# Altium footprint library fuse.PcbLib: 36 footprints (part 3 of 3)
Each footprint in its own frame and in the unit in brackets; x right, y up, seen from the top. Pads: shape width x height; smd on the part's side, far side on the other; paste and mask are expansions set on the pad; w line width, h text height; cw(c..) or ccw(c..) is an arc to the next point about the centre after c.
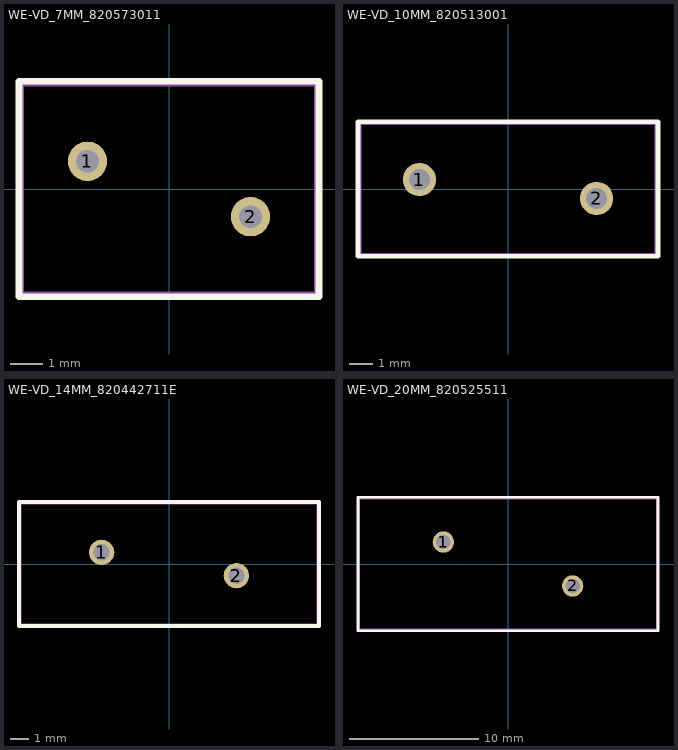
[diagram p2: the footprints below, top view; thin cyan lines are the x and y axes]

## WE-VD_7MM_820573011 [mm]
pads (2):
  round 1.208 hole 0.7: 1(-2.5,0.85) 2(2.5,-0.85)
Top Overlay:
  lines w0.2: -4.6,-3.3 4.6,-3.3 4.6,3.3 -4.6,3.3 -4.6,-3.3
Top Assembly:
  lines w0.1: -4.5,-3.2 4.5,-3.2 4.5,3.2 -4.5,3.2 -4.5,-3.2
3D body "Download_STP_WE-VD_820573011+%28rev1%29.stp": height 10, standoff -22.4, extent -3.696,-2.05 3.696,2.05

## WE-VD_10MM_820513001 [mm]
pads (2):
  round 1.408 hole 0.9 mask+0.102: 1(-3.75,0.4) 2(3.75,-0.4)
Top Overlay:
  lines w0.2: -6.35,-2.85 -6.35,2.85 6.35,2.85 6.35,-2.85 -6.35,-2.85
Top Assembly:
  lines w0.1: -6.25,-2.75 6.25,-2.75 6.25,2.75 -6.25,2.75 -6.25,-2.75
3D body "step_temp.STEP": height 14.5, standoff -21.5, extent -5.5,-1.926 5.5,1.925

## WE-VD_14MM_820442711E [mm]
pads (2):
  round 1.408 hole 0.9 mask+0.102: 1(-3.75,0.65) 2(3.75,-0.65)
Top Overlay:
  lines w0.2: -8.35,-3.45 8.35,-3.45 8.35,3.45 -8.35,3.45 -8.35,-3.45
Top Assembly:
  lines w0.1: -8.25,-3.35 8.25,-3.35 8.25,3.35 -8.25,3.35 -8.25,-3.35
3D body "Download_STP_WE-VD_820542711+%28rev1%29.stp": height 18, standoff -22.01, extent -7.5,-2.25 7.5,2.25

## WE-VD_20MM_820525511 [mm]
pads (2):
  round 1.65 hole 1.1 mask+0.102: 1(-5,1.7) 2(5,-1.7)
Top Overlay:
  lines w0.2: -11.6,-5.15 -11.6,5.15 11.6,5.15 11.6,-5.15 -11.6,-5.15
Top Assembly:
  lines w0.1: -11.5,-5.05 -11.5,5.05 11.5,5.05 11.5,-5.05 -11.5,-5.05
3D body "Download_STP_WE-VD_820525511+%28rev1%29.stp": height 10.7, standoff -35.7, extent -10.694,-3.65 10.694,3.65